# Altium schematic symbol library Diodes.SchLib: 11 symbols
Pins are listed as number, name and electrical type; pins without a type are passive.

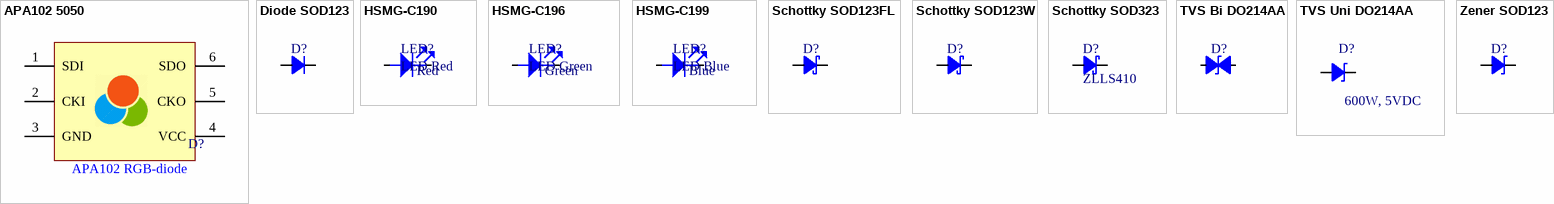
[diagram p0: symbols APA102 5050 to Zener SOD123]

## APA102 5050
designator D?
LED APA 102 5050 RGB
footprint APA102 5050
pins: 1 SDI, 2 CKI, 3 GND, 4 VCC, 5 CKO, 6 SDO
text: APA102 RGB-diode

## Diode SOD123
designator D?
Diode, SOD123
footprint SOD123 Polarized (SOD123, medium density)
pins: 1, 2

## HSMG-C190
designator LED?, comment LED Red  Color: Red
LED 0603 Red
footprint L0603 RED
pins: 1, 2

## HSMG-C196
designator LED?, comment LED Green  Color: Green
LED 0603 Green
footprint L0603 GREEN
pins: 1, 2

## HSMG-C199
designator LED?, comment LED Blue  Color: Blue
LED 0603 Blue
footprint L0603 BLUE
pins: 1, 2

## Schottky SOD123FL
designator D?
Schottky diode, SOD-123FL
footprint SOD123 Polarized (SOD123, medium density)
pins: 1, 2

## Schottky SOD123W
designator D?
Schottky diode, SOD-123W
footprint SOD123W Polarized
pins: 1, 2

## Schottky SOD323
designator D?, comment ZLLS410
Schottky diode, SOD323; Supplier Part Number 1: 1843764; Supplier 1: Farnell
footprint ZLLS410TA (SOD-323, 2 pins)
pins: 1, 2

## TVS Bi DO214AA
designator D?
TVS Diode, DO-214AA, Bidirectional
footprint WE-TVSP DO-214AA Bidirectional (Power TVS Diode, 2-Leads. body 4.32x3.62mm)
pins: 1, 2

## TVS Uni DO214AA
designator D?, comment 600W, 5VDC
TVS Diode, DO-214AA, Unidirectional; Manufacturer: Wurth Elektronik; (Reverse) Breakdown Voltage: 6.7V; (Reverse) Peak Pulse Current: 65.3A; Clamping Voltage: 9.2V; DC Operating Voltage: 5V; ComponentLink1Description: Manufacturer; Mounting Technology: SMT; Operating Temperature: -65 to +150degC; Packaging: Tape and Reel; ComponentLink2URL: https://www.we-online.com/catalog/datasheet/824520500.pdf; ComponentLink2Description: Datasheet; Polarity: Unidirectional; ComponentLink1URL: http://www.we-online.de; Published Date: July 2020; Size: DO-214AA; Power Dissipation: 600W
footprint WE-TVSP DO-214AA Unidirectional (Power TVS Diode, 2-Leads. body 4.32x3.62mm)
pins: 1, 2

## Zener SOD123
designator D?
Zener diode, SOD123
footprint SOD123 Polarized (SOD123, medium density)
pins: 1, 2